# EAGLE library part TSW-104-05-G-T (library apu-csk-motherboard)
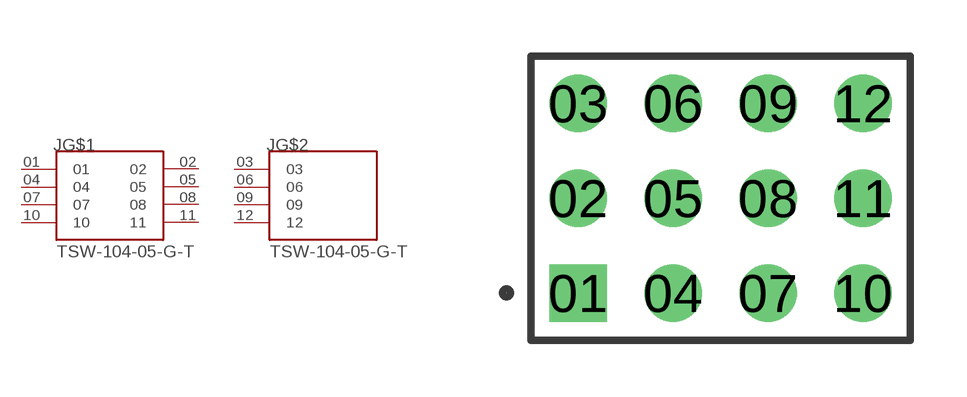
[diagram p13: symbol with the pads of SAMTEC_TSW-104-05-G-T; footprint SAMTEC_TSW-104-05-G-T]

Designator prefix J; gates G$1=TSW-104-05-G-T_SECTION1 G$2=TSW-104-05-G-T_SECTION2

## TSW-104-05-G-T (MANUFACTURER: Samtec; PARTREV: R; STANDARD: Manufacturer Recommendations)  [SAMTEC_TSW-104-05-G-T]
01  G$1:01  pas
02  G$1:02  pas
03  G$2:03  pas
04  G$1:04  pas
05  G$1:05  pas
06  G$2:06  pas
07  G$1:07  pas
08  G$1:08  pas
09  G$2:09  pas
10  G$1:10  pas
11  G$1:11  pas
12  G$2:12  pas

## Footprint SAMTEC_TSW-104-05-G-T (pad centres in mm)
drill 1.02 pad 1.37 square: 01 0,0
drill 1.02 pad 1.37: 02 0,2.54; 03 0,5.08; 04 2.54,0; 05 2.54,2.54; 06 2.54,5.08; 07 5.08,0; 08 5.08,2.54; 09 5.08,5.08; 10 7.62,0; 11 7.62,2.54; 12 7.62,5.08